# Altium schematic symbol library net_ties.SchLib: 3 symbols
Pins are listed as number, name and electrical type; pins without a type are passive.

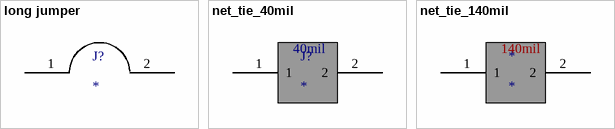
[diagram p0: symbols long jumper to net_tie_140mil]

## long jumper
designator J?
footprint PCBComponent_1
pins: 1, 2

## net_tie_40mil
designator J?  (net tie, no BOM)
footprint net_tie
pins: 1, 2
text: 40mil

## net_tie_140mil
designator *
footprint NET_TIE_140
pins: 1, 2
text: 140mil